# EAGLE library part XR2206 (library caixa)
Clock Generator
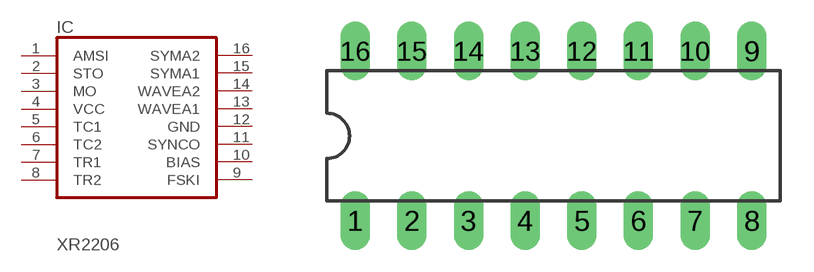
[diagram p10: symbol with the pads of DIL16; footprint DIL16]

Designator prefix IC

## XR2206N  [DIL16]
1  AMSI
2  STO
3  MO
4  VCC
5  TC1
6  TC2
7  TR1
8  TR2
9  FSKI
10  BIAS
11  SYNCO
12  GND
13  WAVEA1
14  WAVEA2
15  SYMA1
16  SYMA2

## Footprint DIL16 (pad centres in mm)
Dual In Line Package
drill 0.813 long: 1 -8.89,-3.81; 2 -6.35,-3.81; 3 -3.81,-3.81; 4 -1.27,-3.81; 5 1.27,-3.81; 6 3.81,-3.81; 7 6.35,-3.81; 8 8.89,-3.81; 9 8.89,3.81; 10 6.35,3.81; 11 3.81,3.81; 12 1.27,3.81; 13 -1.27,3.81; 14 -3.81,3.81; 15 -6.35,3.81; 16 -8.89,3.81